# Altium schematic symbol library PTC_2Pin.Schlib: 1 symbol
Pins are listed as number, name and electrical type; pins without a type are passive.

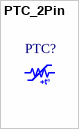
[diagram p0: symbol PTC_2Pin]

## PTC_2Pin
designator PTC?
2Pin PTC Thermistors
pins: 1, 2
text: +t°